# Altium integrated library Atmel Multimedia.IntLib: 6 symbols
Pins are listed as number, name and electrical type; pins without a type are passive.

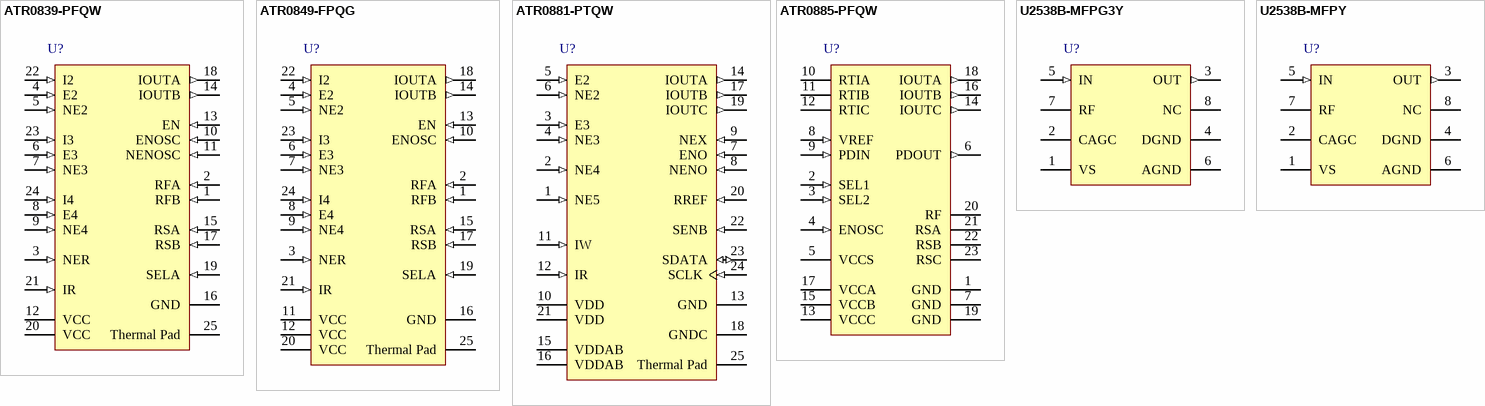
[diagram p0: symbols ATR0839-PFQW to U2538B-MFPY]

## ATR0839-PFQW
designator U?
Four-Channel LVDS Laser Driver for Dual-Layer Application with LVDS Enable, 24-Pin QFN Pkg, Pb-Free, Taped and Reeled; Published: 20-Sep-2010; DatasheetVersion: revB, Sep-2005; PackageVersion: rev2, Jun-2003; PackageReference: QFN24_4X4; Publisher: Altium Limited; PackageDescription: 24-Pin Quad Flat No-Lead, 4 x 4 mm Body, 0.5 mm Pitch, 2.1 x 2.1 mm Exposed Pad; Code_JEDEC: MO-220; ComponentLink1Description: Datasheet; ComponentLink1URL: http://www.atmel.com/dyn/resources/prod_documents/4852s.pdf; ComponentLink2Description: Atmel.com Home; ComponentLink2URL: http://www.atmel.com
footprint QFN24_4X4_N (QFN, 24-Leads, Body 4x4mm, Pitch 0.5mm, IPC Medium Density)
footprint QFN24_4X4_L (QFN, 24-Leads, Body 4x4mm, Pitch 0.5mm, IPC High Density)
footprint QFN24_4X4_M (QFN, 24-Leads, Body 4x4mm, Pitch 0.5mm, IPC Low Density)
pins: 1 RFB (in), 2 RFA (in), 3 NER (in), 4 E2 (in), 5 NE2 (in), 6 E3 (in), 7 NE3 (in), 8 E4 (in), 9 NE4 (in), 10 ENOSC (in), 11 NENOSC (in), 12 VCC (power), 13 EN (in), 14 IOUTB (out), 15 RSA (in), 16 GND (power), 17 RSB (in), 18 IOUTA (out), 19 SELA (in), 20 VCC (power), 21 IR (in), 22 I2 (in), 23 I3 (in), 24 I4 (in), 25 Thermal Pad (power)

## ATR0849-FPQG
designator U?
Four-Channel LVDS Laser Driver for Dual-Layer Application, 24-Pin QFN Pkg, Pb-Free, Taped and Reeled; Published: 20-Sep-2010; DatasheetVersion: revB, Sep-2005; PackageVersion: rev2, Jun-2003; PackageReference: QFN24_4X4; Publisher: Altium Limited; PackageDescription: 24-Pin Quad Flat No-Lead, 4 x 4 mm Body, 0.5 mm Pitch, 2.1 x 2.1 mm Exposed Pad; Code_JEDEC: MO-220; ComponentLink1Description: Datasheet; ComponentLink1URL: http://www.atmel.com/dyn/resources/prod_documents/4851s.pdf; ComponentLink2Description: Atmel.com Home; ComponentLink2URL: http://www.atmel.com
footprint QFN24_4X4_N (QFN, 24-Leads, Body 4x4mm, Pitch 0.5mm, IPC Medium Density)
footprint QFN24_4X4_L (QFN, 24-Leads, Body 4x4mm, Pitch 0.5mm, IPC High Density)
footprint QFN24_4X4_M (QFN, 24-Leads, Body 4x4mm, Pitch 0.5mm, IPC Low Density)
pins: 1 RFB (in), 2 RFA (in), 3 NER (in), 4 E2 (in), 5 NE2 (in), 6 E3 (in), 7 NE3 (in), 8 E4 (in), 9 NE4 (in), 10 ENOSC (in), 11 VCC (power), 12 VCC (power), 13 EN (in), 14 IOUTB (out), 15 RSA (in), 16 GND (power), 17 RSB (in), 18 IOUTA (out), 19 SELA (in), 20 VCC (power), 21 IR (in), 22 I2 (in), 23 I3 (in), 24 I4 (in), 25 Thermal Pad (power)

## ATR0881-PTQW
designator U?
3-Output Laser Driver with 5 Channels and Serial Interface, 24-Pin QFN Pkg, Pb-Free, Taped and Reeled; Published: 20-Sep-2010; DatasheetVersion: revB, Mar-2008; PackageVersion: rev1, Mar-2004; PackageReference: QFN24_PUP; Publisher: Altium Limited; PackageDescription: 24-Pin Quad Flat No-Lead, 4 x 4 mm Body, 0.5 mm Pitch, 2.2 x 2.2 mm Exposed Pad; ComponentLink1Description: Datasheet; ComponentLink1URL: http://www.atmel.com/dyn/resources/prod_documents/9105s.pdf; ComponentLink2Description: Atmel.com Home; ComponentLink2URL: http://www.atmel.com
footprint QFN24_PUP_N (QFN, 24-Leads, Body 4x4mm, Pitch 0.5mm, IPC Medium Density)
footprint QFN24_PUP_L (QFN, 24-Leads, Body 4x4mm, Pitch 0.5mm, IPC High Density)
footprint QFN24_PUP_M (QFN, 24-Leads, Body 4x4mm, Pitch 0.5mm, IPC Low Density)
pins: 1 NE5 (in), 2 NE4 (in), 3 E3 (in), 4 NE3 (in), 5 E2 (in), 6 NE2 (in), 7 ENO (in), 8 NENO (in), 9 NEX (in), 10 VDD (power), 11 IW (in), 12 IR (in), 13 GND (power), 14 IOUTA (out), 15 VDDAB (power), 16 VDDAB (power), 17 IOUTB (out), 18 GNDC (power), 19 IOUTC (out), 20 RREF (in), 21 VDD (power), 22 SENB (in), 23 SDATA (io), 24 SCLK (in), 25 Thermal Pad (power)

## ATR0885-PFQW
designator U?
3-output Laser Driver for HD-DVD/Blu-Ray/DVD/CD-ROM, 24-Pin QFN Pkg, Pb-Free, Taped and Reeled; Published: 20-Sep-2010; DatasheetVersion: revC, Feb-2008; PackageVersion: rev2, Nov-2005; PackageReference: QFN24; Publisher: Altium Limited; PackageDescription: 24-Pin Quad Flat No-Lead, 4 x 4 mm Body, 0.5 mm Pitch, 2.6 x 2.6 mm Exposed Pad; Supplier 1: Mouser; Supplier Part Number 1: 556-ATR0885-PFQW; Code_JEDEC: MO-220; ComponentLink1Description: Datasheet; ComponentLink1URL: http://www.atmel.com/dyn/resources/prod_documents/4923s.pdf; ComponentLink2Description: Atmel.com Home; ComponentLink2URL: http://www.atmel.com
footprint QFN24_N (QFN, 24-Leads, Body 4x4mm, Pitch 0.5mm, IPC Medium Density)
footprint QFN24_L (QFN, 24-Leads, Body 4x4mm, Pitch 0.5mm, IPC High Density)
footprint QFN24_M (QFN, 24-Leads, Body 4x4mm, Pitch 0.5mm, IPC Low Density)
pins: 1 GND (power), 2 SEL1 (in), 3 SEL2 (in), 4 ENOSC (in), 5 VCCS (power), 6 PDOUT (out), 7 GND (power), 8 VREF (in), 9 PDIN (in), 10 RTIA, 11 RTIB, 12 RTIC, 13 VCCC (power), 14 IOUTC (out), 15 VCCB (power), 16 IOUTB (out), 17 VCCA (power), 18 IOUTA (out), 19 GND (power), 20 RF, 21 RSA, 22 RSB, 23 RSC

## U2538B-MFPG3Y
designator U?
IR Receiver for Data Communication, 8-Pin SO8 Pkg, Taped and Reeled, Pb-Free; Published: 20-Sep-2010; DatasheetVersion: revB, Sep-2005; PackageVersion: rev1, Aug-2006; PackageReference: SO8; Publisher: Altium Limited; PackageDescription: 8-Pin Small Outline Integrated Circuit 1.27 mm Pitch; Supplier 1: Digi-Key; Supplier Part Number 1: U2538B-MFPG3Y-ND; Supplier 2: Mouser; Supplier Part Number 2: 556-U2538BMFPG3Y; ComponentLink1Description: Datasheet; ComponentLink1URL: http://www.atmel.com/dyn/resources/prod_documents/doc4717.pdf; ComponentLink2Description: Atmel.com Home; ComponentLink2URL: http://www.atmel.com
footprint SO8_N (SOIC, 8-Leads, Body 4.9x3.8mm, Pitch 1.27mm, IPC Medium Density)
footprint SO8_L (SOIC, 8-Leads, Body 4.9x3.8mm, Pitch 1.27mm, IPC High Density)
footprint SO8_M (SOIC, 8-Leads, Body 4.9x3.8mm, Pitch 1.27mm, IPC Low Density)
pins: 1 VS (power), 2 CAGC, 3 OUT (out), 4 DGND (power), 5 IN (in), 6 AGND (power), 7 RF, 8 NC

## U2538B-MFPY
designator U?
IR Receiver for Data Communication, 8-Pin SO8 Pkg, Tube, Pb-Free; Published: 20-Sep-2010; DatasheetVersion: revB, Sep-2005; PackageVersion: rev1, Aug-2006; PackageReference: SO8; Publisher: Altium Limited; PackageDescription: 8-Pin Small Outline Integrated Circuit 1.27 mm Pitch; Supplier 1: Digi-Key; Supplier Part Number 1: U2538B-MFPY-ND; Supplier 2: Mouser; Supplier Part Number 2: 556-U2538BMFPY; ComponentLink1Description: Datasheet; ComponentLink1URL: http://www.atmel.com/dyn/resources/prod_documents/doc4717.pdf; ComponentLink2Description: Atmel.com Home; ComponentLink2URL: http://www.atmel.com
footprint SO8_N (SOIC, 8-Leads, Body 4.9x3.8mm, Pitch 1.27mm, IPC Medium Density)
footprint SO8_L (SOIC, 8-Leads, Body 4.9x3.8mm, Pitch 1.27mm, IPC High Density)
footprint SO8_M (SOIC, 8-Leads, Body 4.9x3.8mm, Pitch 1.27mm, IPC Low Density)
pins: 1 VS (power), 2 CAGC, 3 OUT (out), 4 DGND (power), 5 IN (in), 6 AGND (power), 7 RF, 8 NC